# EAGLE library part IL-MATTO (library ganges)
Il Matto Board - Device
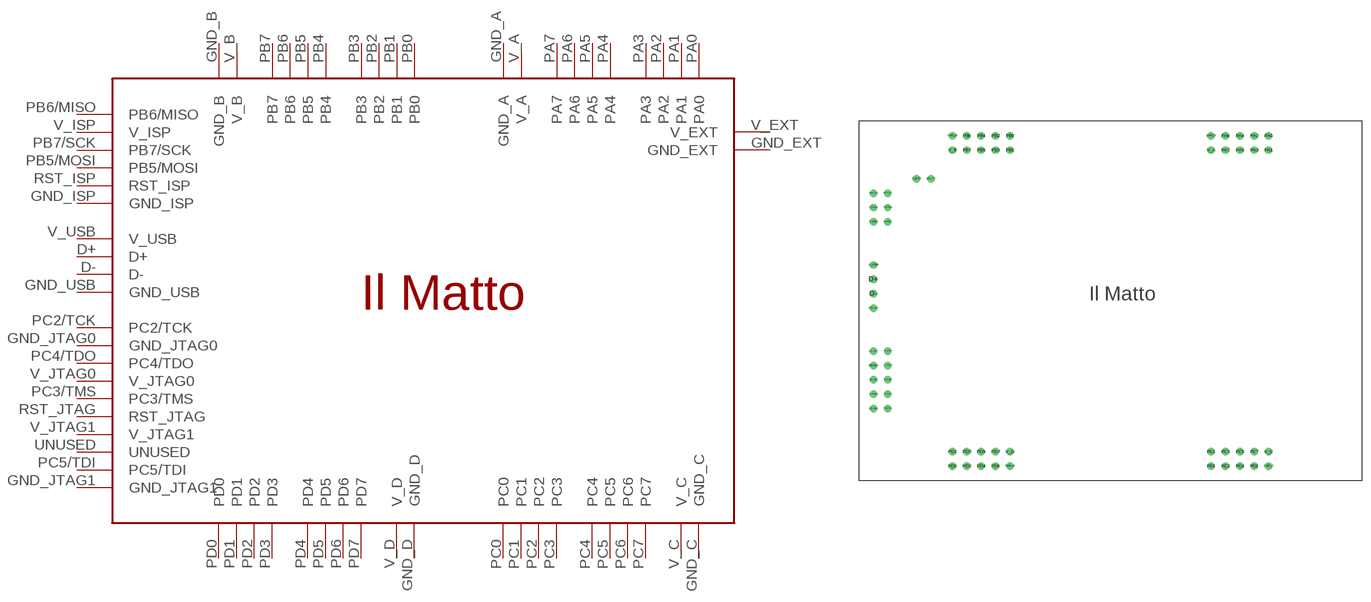
[diagram p0: symbol with the pads of IL-MATTO; footprint IL-MATTO]

Designator prefix PCB

## IL-MATTO  [IL-MATTO]
D+  D+
D-  D-
GND_A  GND_A
GND_B  GND_B
GND_C  GND_C
GND_D  GND_D
GND_EXT  GND_EXT
GND_ISP  GND_ISP
GND_JTAG0  GND_JTAG0
GND_JTAG1  GND_JTAG1
GND_USB  GND_USB
PA0  PA0
PA1  PA1
PA2  PA2
PA3  PA3
PA4  PA4
PA5  PA5
PA6  PA6
PA7  PA7
PB0  PB0
PB1  PB1
PB2  PB2
PB3  PB3
PB4  PB4
PB5  PB5
PB5/MOSI  PB5/MOSI
PB6  PB6
PB6/MISO  PB6/MISO
PB7  PB7
PB7/SCK  PB7/SCK
PC0  PC0
PC1  PC1
PC2  PC2
PC2/TCK  PC2/TCK
PC3  PC3
PC3/TMS  PC3/TMS
PC4  PC4
PC4/TDO  PC4/TDO
PC5  PC5
PC5/TDI  PC5/TDI
PC6  PC6
PC7  PC7
PD0  PD0
PD1  PD1
PD2  PD2
PD3  PD3
PD4  PD4
PD5  PD5
PD6  PD6
PD7  PD7
RST_ISP  RST_ISP
RST_JTAG  RST_JTAG
UNUSED  UNUSED
V_A  V_A
V_B  V_B
V_C  V_C
V_D  V_D
V_EXT  V_EXT
V_ISP  V_ISP
V_JTAG0  V_JTAG0
V_JTAG1  V_JTAG1
V_USB  V_USB

## Footprint IL-MATTO (pad centres in mm)
drill 0.8 pad 1.27: D+ 2.54,35.56; D- 2.54,33.02; GND_A 62.23,60.96; GND_B 16.51,60.96; GND_C 72.39,2.54; GND_D 26.67,2.54; GND_ISP 2.54,50.8; GND_JTAG0 2.54,12.7; GND_JTAG1 2.54,22.86; GND_USB 2.54,30.48; PA0 72.39,60.96; PA1 72.39,58.42; PA2 69.85,60.96; PA3 69.85,58.42; PA4 67.31,60.96; PA5 67.31,58.42; PA6 64.77,60.96; PA7 64.77,58.42; PB0 26.67,60.96; PB1 26.67,58.42; PB2 24.13,60.96; PB3 24.13,58.42; PB4 21.59,60.96; PB5 21.59,58.42; PB5/MOSI 2.54,48.26; PB6 19.05,60.96; PB6/MISO 5.08,45.72; PB7 19.05,58.42; PB7/SCK 5.08,48.26; PC0 62.23,2.54; PC1 62.23,5.08; PC2 64.77,2.54; PC2/TCK 5.08,12.7; PC3 64.77,5.08; PC3/TMS 5.08,17.78; PC4 67.31,2.54; PC4/TDO 5.08,15.24; PC5 67.31,5.08; PC5/TDI 5.08,22.86; PC6 69.85,2.54; PC7 69.85,5.08; PD0 16.51,2.54; PD1 16.51,5.08; PD2 19.05,2.54; PD3 19.05,5.08; PD4 21.59,2.54; PD5 21.59,5.08; PD6 24.13,2.54; PD7 24.13,5.08; RST_ISP 5.08,50.8; RST_JTAG 2.54,17.78; UNUSED 2.54,20.32; V_A 62.23,58.42; V_B 16.51,58.42; V_C 72.39,5.08; V_D 26.67,5.08; V_ISP 2.54,45.72; V_JTAG0 2.54,15.24; V_JTAG1 5.08,20.32; V_USB 2.54,38.1
drill 0.8: GND_EXT 12.7,53.34; V_EXT 10.16,53.34